# EAGLE library part FT230XQ (library ftdi_ft231xq-r)
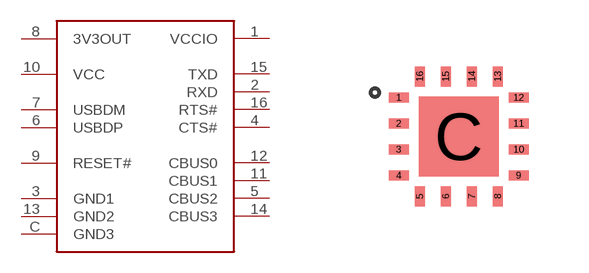
[diagram p5: symbol with the pads of FT230XQ; footprint FT230XQ]

Designator prefix -

## FT230XQ  [FT230XQ]
1  VCCIO
2  RXD
3  GND1
4  CTS#
5  CBUS2
6  USBDP
7  USBDM
8  3V3OUT
9  RESET#
10  VCC
11  CBUS1
12  CBUS0
13  GND2
14  CBUS3
15  TXD
16  RTS#
C  GND3

## Footprint FT230XQ (pad centres in mm)
smd 0.5 x 0.25: 1 -1.5,0.975; 2 -1.5,0.325; 3 -1.5,-0.325; 4 -1.5,-0.975; 9 1.5,-0.975; 10 1.5,-0.325; 11 1.5,0.325; 12 1.5,0.975
smd 0.25 x 0.5: 5 -0.975,-1.5; 6 -0.325,-1.5; 7 0.325,-1.5; 8 0.975,-1.5; 13 0.975,1.5; 14 0.325,1.5; 15 -0.325,1.5; 16 -0.975,1.5
smd 2 x 2: C 0,0